# Altium footprint library usb board.PcbLib: 10 footprints
Each footprint in its own frame and in the unit in brackets; x right, y up, seen from the top. Pads: shape width x height; smd on the part's side, far side on the other; paste and mask are expansions set on the pad; w line width, h text height; cw(c..) or ccw(c..) is an arc to the next point about the centre after c.
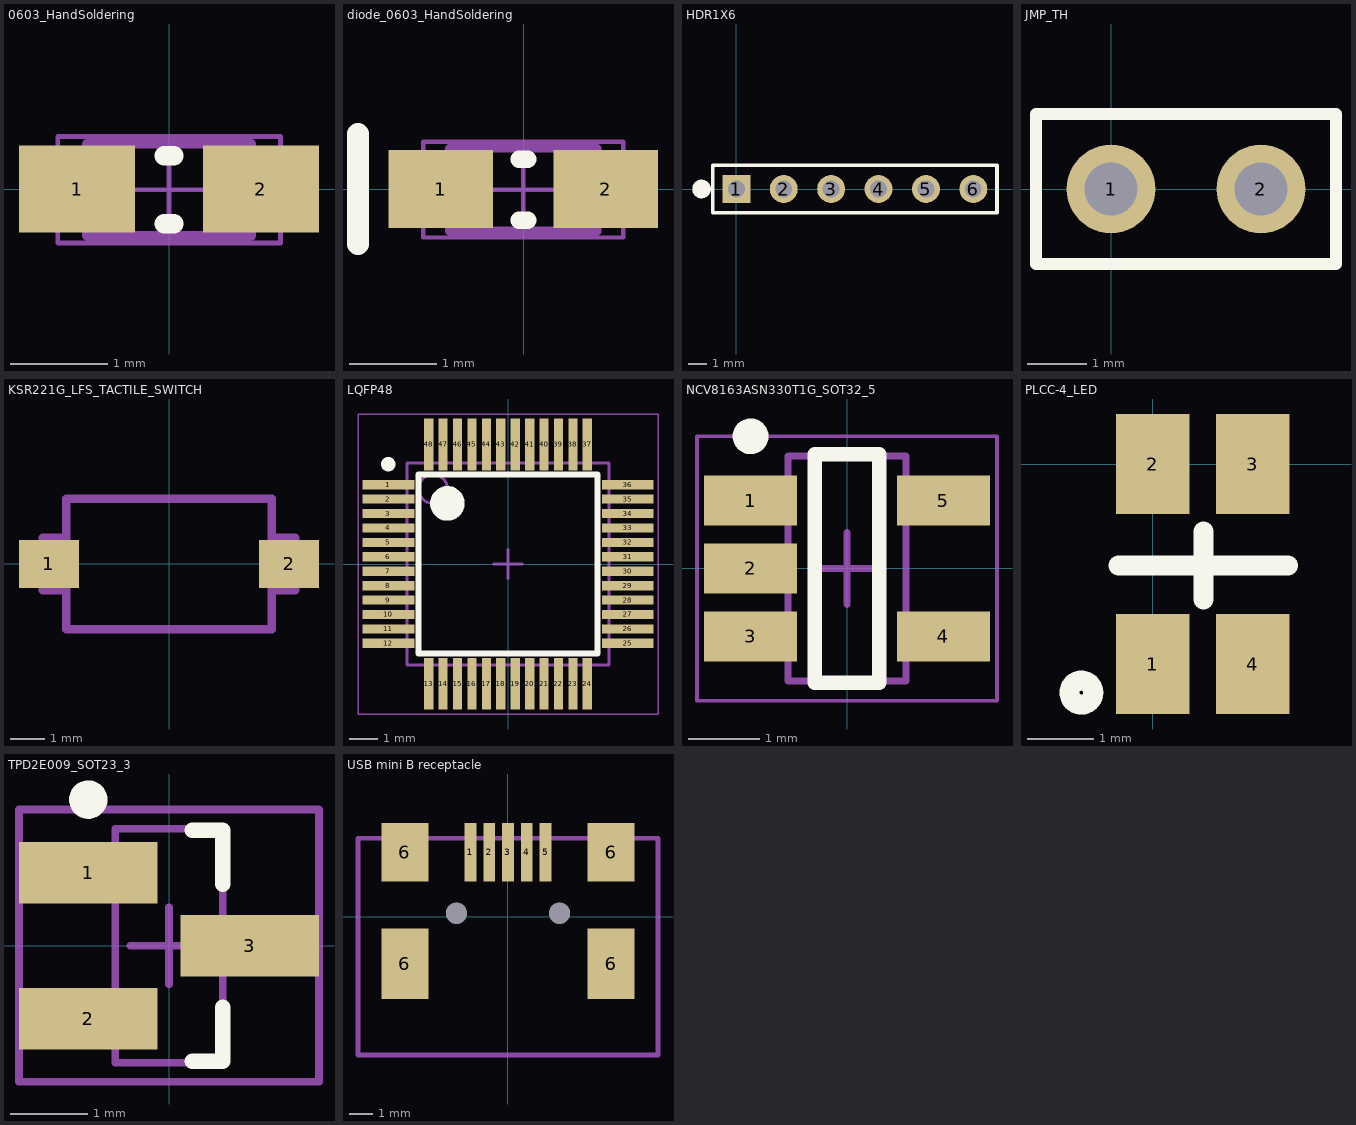
[diagram p0: the footprints below, top view; thin cyan lines are the x and y axes]

## 0603_HandSoldering [mm] "Chip Resistor, 2-Leads, Body 1.6x0.8mm, IPC Medium Density"
height 0.6
pads (2):
  rect 1.2x0.9 smd: 1(-0.954,0) 2(0.946,0)
Top Overlay:
  lines w0.2: -0.053,-0.358 0.047,-0.358 ; -0.053,0.342 0.047,0.342
Mechanical 13:
  lines w0.1: -0.853,-0.483 -0.853,0.467 0.847,0.467 0.847,-0.483 -0.853,-0.483
Mechanical 15:
  lines w0.05: -0.478,-0.008 0.472,-0.008 ; -0.003,-0.483 -0.003,0.467 ; -1.153,-0.558 -1.153,0.542 1.147,0.542 1.147,-0.558 -1.153,-0.558
3D body: height 0.6, standoff 0, extent 0.578,-0.482 0.847,0.467
3D body: height 0.6, standoff 0, extent -0.583,-0.482 0.578,0.467
3D body: height 0.6, standoff 0, extent -0.852,-0.482 -0.583,0.467

## diode_0603_HandSoldering [mm] "Chip Diode, 2-Leads, Body 1.6x0.8mm, IPC Medium Density"
height 0.6
pads (2):
  rect 1.2x0.9 smd: 1(-0.954,0) 2(0.946,0)
Top Overlay:
  lines w0.2: -0.053,-0.358 0.047,-0.358 ; -0.053,0.342 0.047,0.342
  lines w0.254: -1.905,-0.635 -1.905,0.635
Mechanical 13:
  lines w0.1: -0.853,-0.483 -0.853,0.467 0.847,0.467 0.847,-0.483 -0.853,-0.483
Mechanical 15:
  lines w0.05: -0.478,-0.008 0.472,-0.008 ; -0.003,-0.483 -0.003,0.467 ; -1.153,-0.558 -1.153,0.542 1.147,0.542 1.147,-0.558 -1.153,-0.558
3D body: height 0.6, standoff 0, extent 0.578,-0.482 0.847,0.467
3D body: height 0.6, standoff 0, extent -0.583,-0.482 0.578,0.467
3D body: height 0.6, standoff 0, extent -0.852,-0.482 -0.583,0.467

## HDR1X6 [mm] "Connector; Header; 6 Position"
pads (6):
  rect 1.5x1.5 hole 0.9: 1(0,0)
  round 1.5 hole 0.9: 2(2.54,0) 3(5.08,0) 4(7.62,0) 5(10.16,0) 6(12.7,0)
Top Overlay:
  circle w0.5: c-1.86,0 r0.25
  lines w0.2: -1.27,-1.27 -1.27,1.27 13.97,1.27 13.97,-1.27 -1.27,-1.27

## JMP_TH [mm] "Jumper, Through-Hole"
pads (2):
  round 1.5 hole 0.9: 1(0,0) 2(2.54,0)
Top Overlay:
  lines w0.2: -1.27,-1.27 -1.27,1.27 3.81,1.27 3.81,-1.27 -1.27,-1.27

## KSR221G_LFS_TACTILE_SWITCH [mm] "C & K COMPONENTS  KSR221G LFS  SWITCH, SPST, 0.05A, 32VDC, SMD"
height 2.5
pads (2):
  rect 1.75x1.4 smd: 1(-3.5,0) 2(3.5,0)
Mechanical 3:
  lines w0.254: -3,-1.905 3,-1.9 3,1.9 -3,1.9 -3,-1.9 ; -3,-0.762 -3.683,-0.762 -3.683,0.762 -3,0.762 ; 3,-0.762 3.683,-0.762 3.683,0.762 3,0.762
3D body: height 2.5, standoff 0, extent -1,-1 1,1
3D body: height 1.75, standoff 0, extent -3.175,-2.032 3.175,2.032

## LQFP48 [mm] "TSQFP, 48-Leads, Body 7,00x7,00mm, Pitch 0,50mm, IPC Medium Density"
height 1.6
pads (48):
  rect 1.8x0.32 smd: 1(-4.15,2.75) 2(-4.15,2.25) 3(-4.15,1.75) 4(-4.15,1.25) 5(-4.15,0.75) 6(-4.15,0.25) 7(-4.15,-0.25) 8(-4.15,-0.75) 9(-4.15,-1.25) 10(-4.15,-1.75) 11(-4.15,-2.25) 12(-4.15,-2.75) 25(4.15,-2.75) 26(4.15,-2.25) 27(4.15,-1.75) 28(4.15,-1.25) 29(4.15,-0.75) 30(4.15,-0.25) 31(4.15,0.25) 32(4.15,0.75) 33(4.15,1.25) 34(4.15,1.75) 35(4.15,2.25) 36(4.15,2.75)
  rect 0.32x1.8 smd: 13(-2.75,-4.15) 14(-2.25,-4.15) 15(-1.75,-4.15) 16(-1.25,-4.15) 17(-0.75,-4.15) 18(-0.25,-4.15) 19(0.25,-4.15) 20(0.75,-4.15) 21(1.25,-4.15) 22(1.75,-4.15) 23(2.25,-4.15) 24(2.75,-4.15) 37(2.75,4.15) 38(2.25,4.15) 39(1.75,4.15) 40(1.25,4.15) 41(0.75,4.15) 42(0.25,4.15) 43(-0.25,4.15) 44(-0.75,4.15) 45(-1.25,4.15) 46(-1.75,4.15) 47(-2.25,4.15) 48(-2.75,4.15)
Top Overlay:
  circle w0.25: c-4.15,3.46 r0.125
  circle w0.6: c-2.1,2.1 r0.3
  lines w0.2: -3.1,-3.1 -3.1,3.1 3.1,3.1 3.1,-3.1 -3.1,-3.1
Mechanical 13:
  circle w0.1: c-2.6,2.6 r0.5
  lines w0.1: -3.5,-3.5 -3.5,3.5 3.5,3.5 3.5,-3.5 -3.5,-3.5
Mechanical 15:
  lines w0.05: -5.2,-5.2 -5.2,5.2 5.2,5.2 5.2,-5.2 -5.2,-5.2
  lines w0.1: -0.5,0 0.5,0 ; 0,-0.5 0,0.5
3D body: height 1.6, standoff 0.05, extent -3.5,-3.5 3.5,3.5

## NCV8163ASN330T1G_SOT32_5 [mm] "SOT23, 5-Leads, Body 3,00x2,75mm, Pitch 0,95mm, IPC Medium Density"
height 1.1
pads (5):
  rect 1.3x0.7 smd: 1(-1.35,0.95) 2(-1.35,0) 3(-1.35,-0.95) 4(1.35,-0.95) 5(1.35,0.95)
Top Overlay:
  circle w0.25: c-1.35,1.85 r0.125
  lines w0.2: -0.45,-1.6 -0.45,1.6 0.45,1.6 0.45,-1.6 -0.45,-1.6
Mechanical 13:
  lines w0.1: -0.825,-1.575 0.825,-1.575 0.825,1.575 -0.825,1.575 -0.825,-1.575
Mechanical 15:
  lines w0.05: -2.1,-1.85 2.1,-1.85 2.1,1.85 -2.1,1.85 -2.1,-1.85
  lines w0.1: -0.5,0 0.5,0 ; 0,-0.5 0,0.5
3D body: height 1.1, standoff 0.1, extent -0.825,-1.575 0.825,1.575

## PLCC-4_LED [mm] "Standard PLCC-4 LED package"
height 1.9
pads (4):
  rect 1.1x1.5 smd: 1(0,-3) 2(0,0) 3(1.5,0) 4(1.5,-3)
Top Overlay:
  circle w0.3: c-1.069,-3.429 r0.18
  lines w0.3: -0.508,-1.524 2.032,-1.524 ; 0.762,-2.032 0.762,-1.016
3D body: height 1.9, standoff 0.1, extent -0.635,-3.111 2.159,0.064

## TPD2E009_SOT23_3 [mm] "SOT23, 3-Leads, Body 3,0x2,6mm (max), Pitch 0,95mm, IPC Medium Density"
height 1.12
pads (3):
  rect 1.8x0.8 smd: 1(-1.05,0.95) 2(-1.05,-0.95) 3(1.05,0)
Top Overlay:
  circle w0.25: c-1.05,1.9 r0.125
  lines w0.2: 0.3,-1.5 0.7,-1.5 0.7,-0.8 ; 0.3,1.5 0.7,1.5 0.7,0.8
Mechanical 13:
  lines w0.1: -0.7,-1.52 0.7,-1.52 0.7,1.52 -0.7,1.52 -0.7,-1.52
Mechanical 15:
  lines w0.1: -0.5,0 0.5,0 ; 0,-0.5 0,0.5 ; -1.95,-1.77 1.95,-1.77 1.95,1.77 -1.95,1.77 -1.95,-1.77
3D body: height 1.12, standoff 0.1, extent -0.7,-1.52 0.7,1.52

## USB mini B receptacle [mm] "popravek"
pads (11):
  rect 0.5x2.5 smd: 1(-1.6,2.75) 2(-0.8,2.75) 3(0,2.75) 4(0.8,2.75) 5(1.6,2.75)
  rect 2x3 smd: 6(-4.4,-2) 6(4.4,-2)
  rect 2x2.5 smd: 6(-4.4,2.75) 6(4.4,2.75)
  round 0.9 hole 0.9: ""(-2.2,0.15) ""(2.2,0.15)
Mechanical 15:
  lines w0.2: -6.4,-5.9 6.4,-5.9 6.4,3.35 -6.4,3.35 -6.4,-5.9
3D body: height 4, standoff -0.95, extent -4.95,-5.75 4.95,3.25